# Altium schematic symbol library A 按钮开关及附件.SchLib: 14 symbols
Pins are listed as number, name and electrical type; pins without a type are passive.

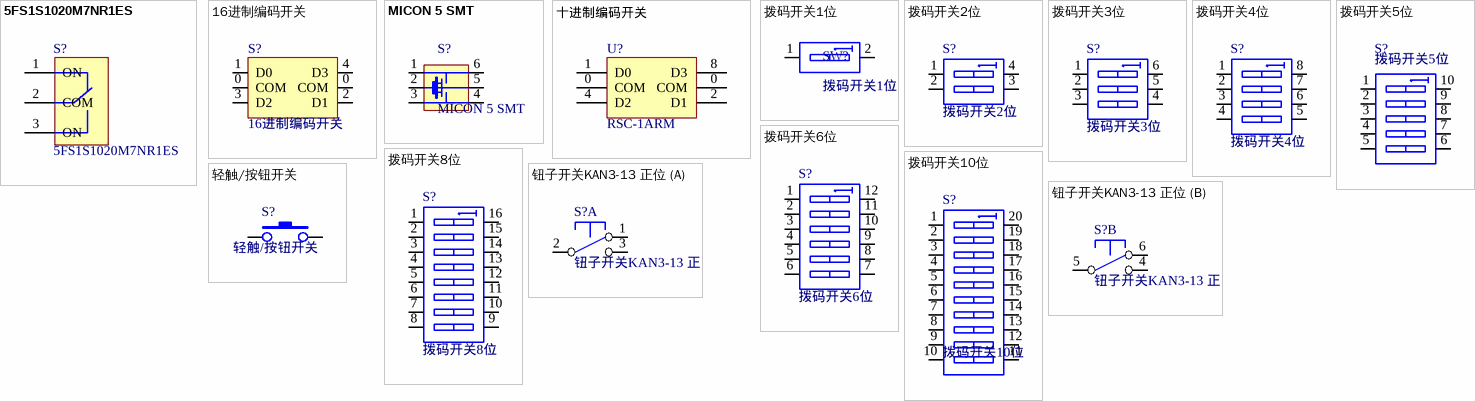
[diagram p0: symbols 5FS1S1020M7NR1ES to 钮子开关KAN3-13 正位]

## 5FS1S1020M7NR1ES
designator S?
拨动开关
pins: 1 ON, 2 COM, 3 ON

## 16进制编码开关
designator S?
0x00-0x0F编码开关
pins: 0 COM, 0 COM, 1 D0, 2 D1, 3 D2, 4 D3

## MICON 5 SMT
designator S?
RAFI,MICON 5按钮-贴片
pins: 1, 2, 3, 4, 5, 6

## 十进制编码开关
designator U?, comment RSC-1ARM
0x00-0x09编码开关
pins: 0 COM, 0 COM, 1 D0, 2 D1, 4 D2, 8 D3

## 拨码开关1位
designator SW?
拨码开关，1位
pins: 1 A1, 2 A2

## 拨码开关2位
designator S?
拨码开关，2位
pins: 1 A1, 2 A2, 3 B2, 4 B1

## 拨码开关3位
designator S?
拨码开关，3位
pins: 1 A1, 2 A2, 3 A3, 4 B3, 5 B2, 6 B1

## 拨码开关4位
designator S?
拨码开关，4位
pins: 1 A1, 2 A2, 3 A3, 4 A4, 5 B4, 6 B3, 7 B2, 8 B1

## 拨码开关5位
designator S?
拨码开关，5位
pins: 1 A1, 2 A2, 3 A3, 4 A4, 5 A5, 6 B5, 7 B4, 8 B3, 9 B2, 10 B1

## 拨码开关6位
designator S?
拨码开关，6位
pins: 1 A1, 2 A2, 3 A3, 4 A4, 5 A5, 6 A6, 7 B6, 8 B5, 9 B4, 10 B3, 11 B2, 12 B1

## 拨码开关8位
designator S?
拨码开关，8位
pins: 1 A1, 2 A2, 3 A3, 4 A4, 5 A5, 6 A6, 7 A7, 8 A8, 9 B8, 10 B7, 11 B6, 12 B5, 13 B4, 14 B3, 15 B2, 16 B1

## 拨码开关10位
designator S?
拨码开关，10位
pins: 1 A1, 2 A2, 3 A3, 4 A4, 5 A5, 6 A6, 7 A7, 8 A8, 9 B8, 10 B7, 11 B6, 12 B5, 13 B4, 14 B3, 15 B2, 16 B1, 17 B1, 18 B1, 19 B1, 20 B1

## 轻触/按钮开关
designator S?
按钮开关; 物料编码: 04-017-000-00030; 备注: 直插; 厂家: 乐清康宏; 类型: 按钮/开关及附件
pins: 1, 2

## 钮子开关KAN3-13 正位
designator S?
钮子开关
part A pins: 1, 2, 3
part B pins: 4, 5, 6